# EAGLE library part 691219610003 (library Wuerth_Elektronik_eiCan_Terminal_Blocks_v2.0)
WR-TBL Serie 2196 - 10.16mm Horizontal Entry Modular with Rising Cage Clamp - 8.5mm2 Wires, 3 Pins
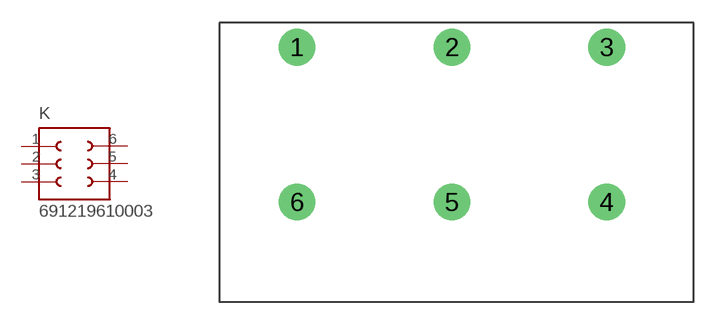
[diagram p10: symbol with the pads of 691219610003; footprint 691219610003]

Designator prefix K

## 691219610003  [691219610003]
1  1  pas
2  2  pas
3  3  pas
4  4  pas
5  5  pas
6  6  pas

## Footprint 691219610003 (pad centres in mm)
WR-TBL Serie 2196 - 10.16mm Horizontal Entry Modular with Rising Cage Clamp - 8.5mm2 Wires, 3 Pins
drill 1.6 round: 1 -10.16,0; 2 0,0; 3 10.16,0; 4 10.16,-10.16; 5 0,-10.16; 6 -10.16,-10.16